# Altium footprint library transistor.PcbLib: 6 footprints
Each footprint in its own frame and in the unit in brackets; x right, y up, seen from the top. Pads: shape width x height; smd on the part's side, far side on the other; paste and mask are expansions set on the pad; w line width, h text height; cw(c..) or ccw(c..) is an arc to the next point about the centre after c.
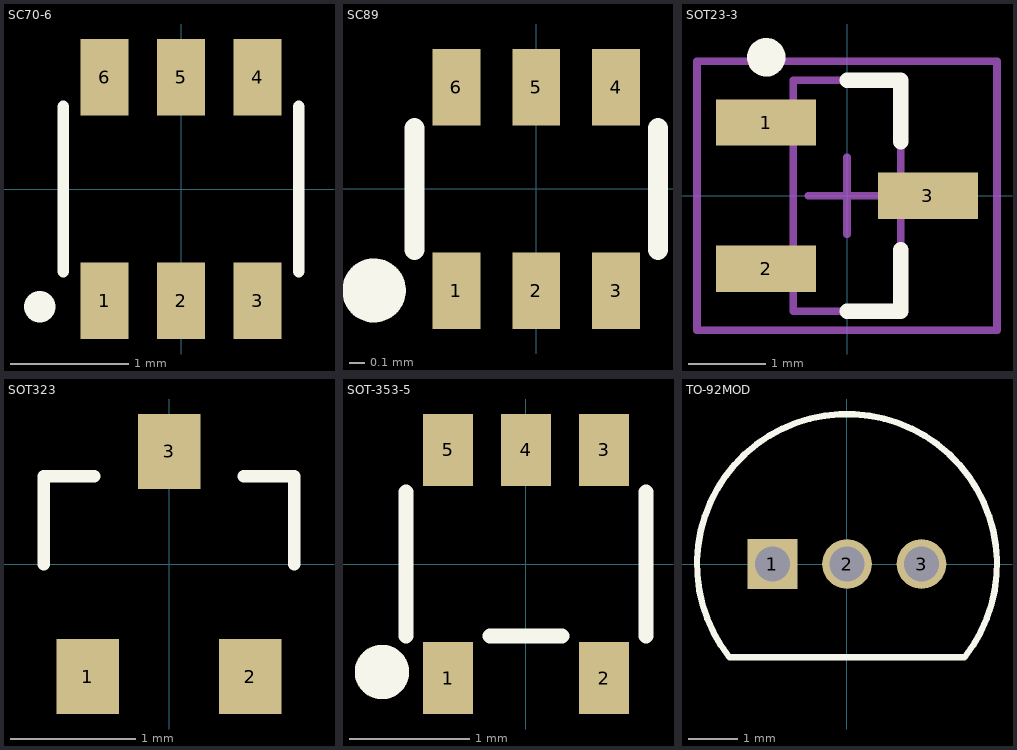
[diagram p0: the footprints below, top view; thin cyan lines are the x and y axes]

## SC70-6 [mm]
pads (6):
  rect 0.406x0.648 smd: 1(-0.65,-0.95) 2(0,-0.95) 3(0.65,-0.95) 4(0.65,0.95) 5(0,0.95) 6(-0.65,0.95)
Top Overlay:
  circle w0.254: c-1.2,-1 r0.005
  lines w0.1: -1,-0.7 -1,0.7 ; 1,-0.7 1,0.7
3D body: height 1.1, standoff 0, extent -1,-0.7 1,0.7

## SC89 [mm] "SC89"
pads (6):
  rect 0.3x0.478 smd: 1(-0.5,-0.638) 2(0,-0.638) 3(0.5,-0.638) 4(0.5,0.638) 5(0,0.638) 6(-0.5,0.638)
Top Overlay:
  circle w0.2: c-1.016,-0.635 r0.1
  lines w0.127: -0.762,-0.381 -0.762,0.381 ; 0.762,-0.381 0.762,0.381

## SOT23-3 [mm] "SOT23, 3-Leads, Body 2.9x1.3mm, Pitch 0.95mm, Lead Span 2.3mm, IPC Medium Density"
height 1.2
pads (3):
  rect 1.3x0.6 smd: 1(-1.05,0.95) 2(-1.05,-0.95) 3(1.05,0)
Top Overlay:
  circle w0.25: c-1.05,1.8 r0.125
  lines w0.2: 0,-1.5 0.7,-1.5 0.7,-0.7 ; 0,1.5 0.7,1.5 0.7,0.7
Mechanical 13:
  lines w0.1: -0.7,-1.5 -0.7,1.5 0.7,1.5 0.7,-1.5 -0.7,-1.5
Mechanical 15:
  lines w0.1: -0.5,0 0.5,0 ; 0,-0.5 0,0.5 ; -1.95,-1.75 -1.95,1.75 1.95,1.75 1.95,-1.75 -1.95,-1.75
3D body: height 1.2, standoff 0, extent -0.7,-1.5 0.7,1.5

## SOT323 [mm]
pads (3):
  rect 0.5x0.6 smd: 1(-0.65,-0.9) 2(0.65,-0.9) 3(0,0.9)
Top Overlay:
  lines w0.1: -1,0 -1,0.7 -0.6,0.7 ; 0.6,0.7 1,0.7 1,0
3D body: height 1.1, standoff 0, extent -1,-0.7 1,0.7

## SOT-353-5 [mm]
pads (5):
  rect 0.42x0.6 smd: 1(-0.65,-0.95) 2(0.65,-0.95) 3(0.65,0.95) 4(0,0.95) 5(-0.65,0.95)
Top Overlay:
  circle w0.254: c-1.2,-0.9 r0.1
  lines w0.127: -1,-0.6 -1,0.6 ; -0.3,-0.6 0.3,-0.6 ; 1,-0.6 1,0.6
3D body: height 1, standoff 0, extent -1,-0.6 1,0.6

## TO-92MOD [mm] "TO-92MOD"
pads (3):
  rect 1x1 hole 0.7: 1(-1.5,0)
  round 1 hole 0.7: 2(0,0) 3(1.5,0)
Top Overlay:
  lines w0.127: -2.363,-1.88 cw(c0,0) 2.363,-1.88 -2.363,-1.88
3D body: height 8.6, standoff 0, extent -3.02,-3.02 3.02,3.02